# EAGLE library part 82B715 (library DS3231)
I2C Bus Extender
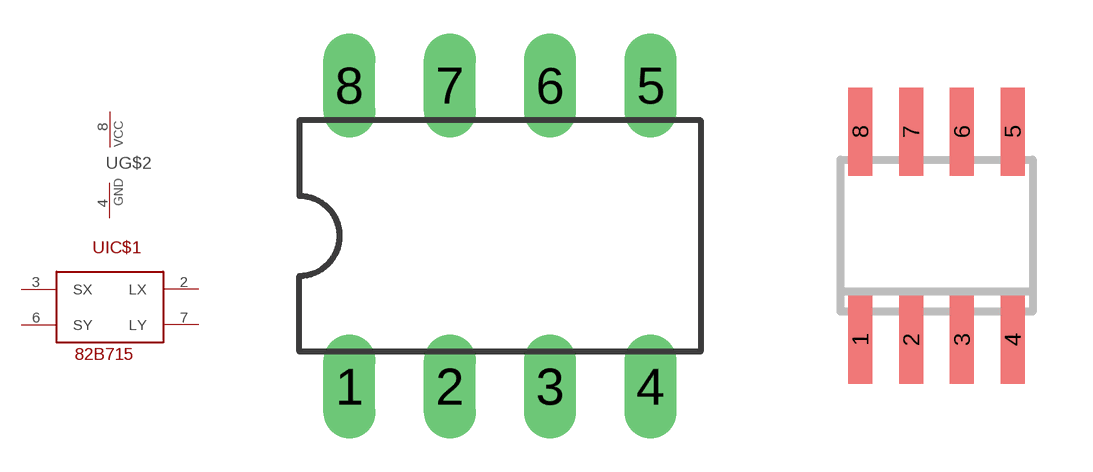
[diagram p14: symbol with the pads of DIL08; footprints DIL08, SO08]

Designator prefix -; gates IC$1=82B715 G$2=PWRN

## 82B715PN  [DIL08]
2  IC$1:LX
3  IC$1:SX
4  G$2:GND  pwr
6  IC$1:SY
7  IC$1:LY
8  G$2:VCC  pwr

## 82B715TD  [SO08]
Pads as for DIL08

## Footprint DIL08 (pad centres in mm)
drill 0.813 long: 1 -3.81,-3.81; 2 -1.27,-3.81; 3 1.27,-3.81; 4 3.81,-3.81; 5 3.81,3.81; 6 1.27,3.81; 7 -1.27,3.81; 8 -3.81,3.81

## Footprint SO08 (pad centres in mm)
smd 0.6 x 2.2: 1 -1.905,-2.6; 2 -0.635,-2.6; 3 0.635,-2.6; 4 1.905,-2.6; 5 1.905,2.6; 6 0.635,2.6; 7 -0.635,2.6; 8 -1.905,2.6